# EAGLE library part LEMOV8P (library lbm)
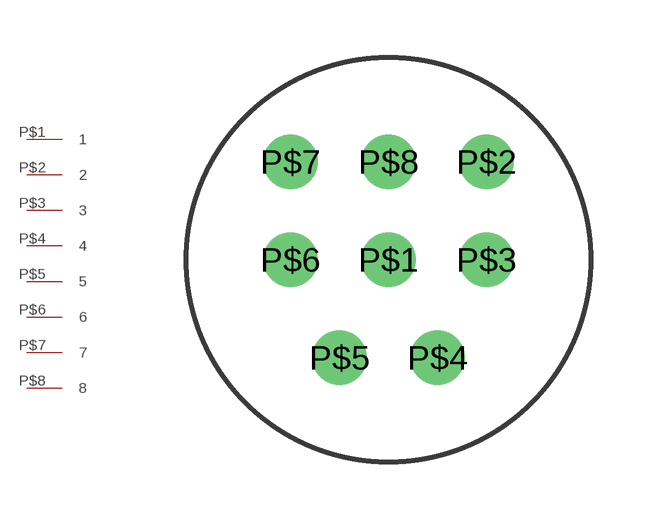
[diagram p1: symbol with the pads of LEMOV8P; footprint LEMOV8P]

Designator prefix P

## LEMOV8P  [LEMOV8P]
P$1  1
P$2  2
P$3  3
P$4  4
P$5  5
P$6  6
P$7  7
P$8  8

## Footprint LEMOV8P (pad centres in mm)
drill 0.9 round: P$1 0,0; P$2 2.54,2.54; P$3 2.54,0; P$4 1.27,-2.54; P$5 -1.27,-2.54; P$6 -2.54,0; P$7 -2.54,2.54; P$8 0,2.54